# Altium footprint library Components - 30.03.22 - 06.59.PcbLib: 1 footprints
Each footprint in its own frame and in the unit in brackets; x right, y up, seen from the top. Pads: shape width x height; smd on the part's side, far side on the other; paste and mask are expansions set on the pad; w line width, h text height; cw(c..) or ccw(c..) is an arc to the next point about the centre after c.
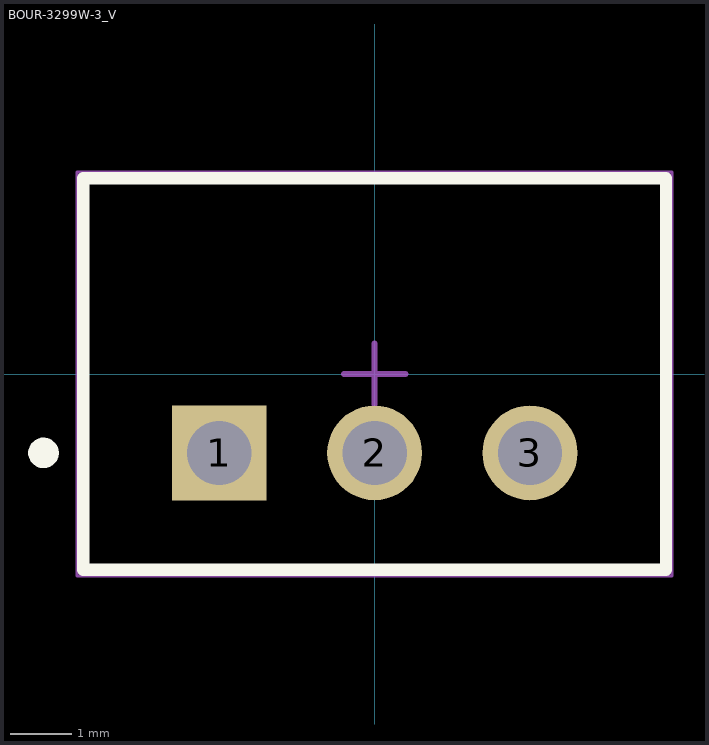
[diagram p0: the footprint, top view; thin cyan lines are the x and y axes]

## BOUR-3299W-3_V [mm] "TH, 3-Leads, Body 9.53x6.4mm, Pitch 2.54mm"
height 11.55
pads (3):
  rect 1.55x1.55 hole 1.05: 1(-2.54,-1.29)
  round 1.55 hole 1.05: 2(0,-1.29) 3(2.54,-1.29)
Top Overlay:
  circle w0.25: c-5.415,-1.29 r0.125
  lines w0.2: -4.765,-3.2 -4.765,3.2 4.765,3.2 4.765,-3.2 -4.765,-3.2
Mechanical 13:
  lines w0.1: -4.765,-3.2 4.765,-3.2 4.765,3.2 -4.765,3.2 -4.765,-3.2
Mechanical 15:
  lines w0.05: -4.865,-3.3 -4.865,3.3 4.865,3.3 4.865,-3.3 -4.865,-3.3
  lines w0.1: -0.5,0 0.5,0 ; 0,-0.5 0,0.5
3D body: height 10.03, standoff 0.38, extent -4.765,-3.2 4.765,3.2
3D body: height 11.55, standoff 10.03, extent -4.765,0.91 -2.476,3.2